# EAGLE library part MAX2829ETN+ (library My_Library)
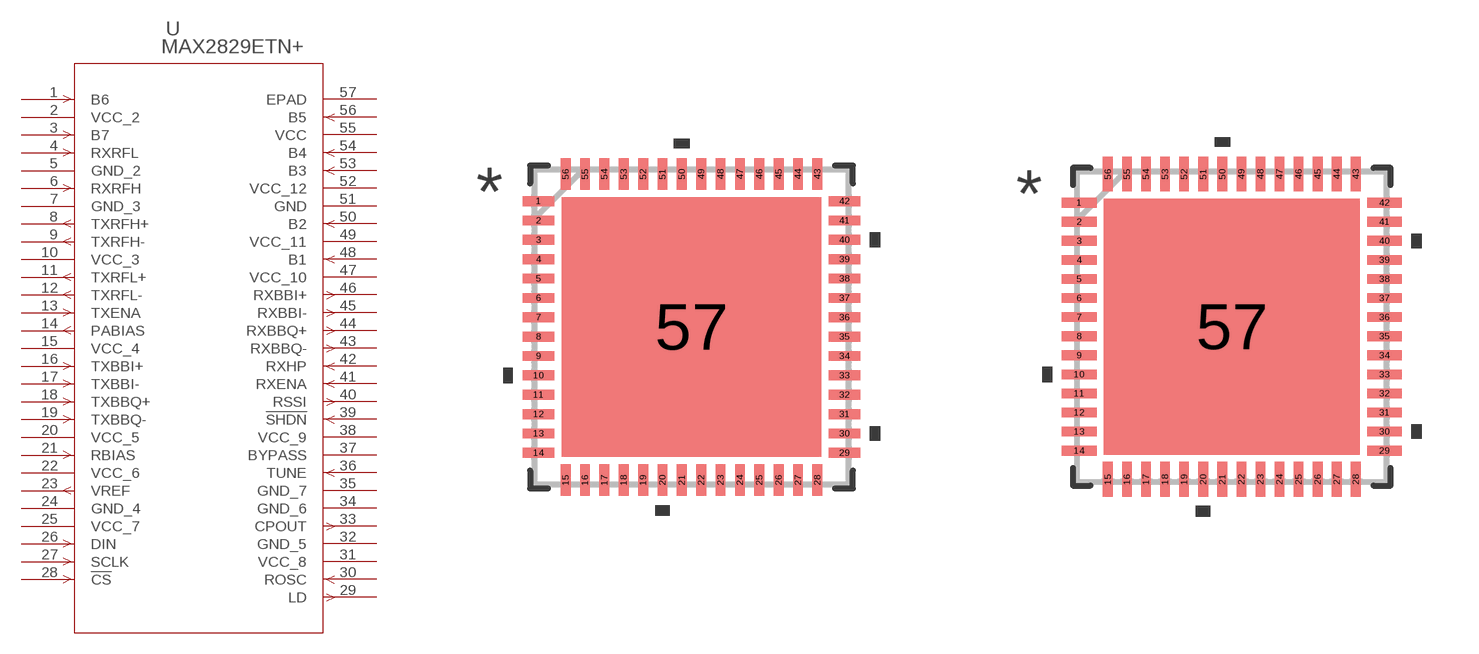
[diagram p23: symbol with the pads of 21-0135_T5688+2_MXM; footprints 21-0135_T5688+2_MXM, 21-0135_T5688+2_MXM-M]

Designator prefix U

## MAX2829ETN+ (COPYRIGHT: Copyright (C) 2024 Ultra Librarian. All rights reserved.; MANUFACTURER_PART_NUMBER: MAX2829ETN+; MFR_NAME: Analog Devices Inc)  [21-0135_T5688+2_MXM]
1  B6  in
2  VCC_2  pwr
3  B7  in
4  RXRFL  in
5  GND_2  pwr
6  RXRFH  in
7  GND_3  pwr
8  TXRFH+  out
9  TXRFH-  out
10  VCC_3  pwr
11  TXRFL+  out
12  TXRFL-  out
13  TXENA  in
14  PABIAS  out
15  VCC_4  pwr
16  TXBBI+  in
17  TXBBI-  in
18  TXBBQ+  in
19  TXBBQ-  in
20  VCC_5  pwr
21  RBIAS  in
22  VCC_6  pwr
23  VREF  out
24  GND_4  pwr
25  VCC_7  pwr
26  DIN  in
27  SCLK  in
28  !CS  in
29  LD  out
30  ROSC  in
31  VCC_8  pwr
32  GND_5  pwr
33  CPOUT  out
34  GND_6  pwr
35  GND_7  pwr
36  TUNE  in
37  BYPASS  pas
38  VCC_9  pwr
39  !SHDN  in
40  RSSI  out
41  RXENA  in
42  RXHP  in
43  RXBBQ-  out
44  RXBBQ+  out
45  RXBBI-  out
46  RXBBI+  out
47  VCC_10  pwr
48  B1  in
49  VCC_11  pwr
50  B2  in
51  GND  pwr
52  VCC_12  pwr
53  B3  in
54  B4  in
55  VCC  pwr
56  B5  in
57  EPAD  pas

## MAX2829ETN+21-0135_T5688+2_MXM-M (COPYRIGHT: Copyright (C) 2024 Ultra Librarian. All rights reserved.; MANUFACTURER_PART_NUMBER: MAX2829ETN+; MFR_NAME: Analog Devices Inc)  [21-0135_T5688+2_MXM-M]
Pads as for 21-0135_T5688+2_MXM

## MAX2829ETN+21-0135_T5688+2_MXM-L (COPYRIGHT: Copyright (C) 2024 Ultra Librarian. All rights reserved.; MANUFACTURER_PART_NUMBER: MAX2829ETN+; MFR_NAME: Analog Devices Inc)  [21-0135_T5688+2_MXM-L]
Pads as for 21-0135_T5688+2_MXM

## Footprint 21-0135_T5688+2_MXM (pad centres in mm)
smd 0.813 x 0.254: 1 -3.95,3.25; 2 -3.95,2.75; 3 -3.95,2.25; 4 -3.95,1.75; 5 -3.95,1.25; 6 -3.95,0.75; 7 -3.95,0.25; 8 -3.95,-0.25; 9 -3.95,-0.75; 10 -3.95,-1.25; 11 -3.95,-1.75; 12 -3.95,-2.25; 13 -3.95,-2.75; 14 -3.95,-3.25; 29 3.95,-3.25; 30 3.95,-2.75; 31 3.95,-2.25; 32 3.95,-1.75; 33 3.95,-1.25; 34 3.95,-0.75; 35 3.95,-0.25; 36 3.95,0.25; 37 3.95,0.75; 38 3.95,1.25; 39 3.95,1.75; 40 3.95,2.25; 41 3.95,2.75; 42 3.95,3.25
smd 0.254 x 0.813: 15 -3.25,-3.95; 16 -2.75,-3.95; 17 -2.25,-3.95; 18 -1.75,-3.95; 19 -1.25,-3.95; 20 -0.75,-3.95; 21 -0.25,-3.95; 22 0.25,-3.95; 23 0.75,-3.95; 24 1.25,-3.95; 25 1.75,-3.95; 26 2.25,-3.95; 27 2.75,-3.95; 28 3.25,-3.95; 43 3.25,3.95; 44 2.75,3.95; 45 2.25,3.95; 46 1.75,3.95; 47 1.25,3.95; 48 0.75,3.95; 49 0.25,3.95; 50 -0.25,3.95; 51 -0.75,3.95; 52 -1.25,3.95; 53 -1.75,3.95; 54 -2.25,3.95; 55 -2.75,3.95; 56 -3.25,3.95
smd 6.706 x 6.706: 57 0,0

## Footprint 21-0135_T5688+2_MXM-M (pad centres in mm)
smd 0.914 x 0.254: 1 -4,3.25; 2 -4,2.75; 3 -4,2.25; 4 -4,1.75; 5 -4,1.25; 6 -4,0.75; 7 -4,0.25; 8 -4,-0.25; 9 -4,-0.75; 10 -4,-1.25; 11 -4,-1.75; 12 -4,-2.25; 13 -4,-2.75; 14 -4,-3.25; 29 4,-3.25; 30 4,-2.75; 31 4,-2.25; 32 4,-1.75; 33 4,-1.25; 34 4,-0.75; 35 4,-0.25; 36 4,0.25; 37 4,0.75; 38 4,1.25; 39 4,1.75; 40 4,2.25; 41 4,2.75; 42 4,3.25
smd 0.254 x 0.914: 15 -3.25,-4; 16 -2.75,-4; 17 -2.25,-4; 18 -1.75,-4; 19 -1.25,-4; 20 -0.75,-4; 21 -0.25,-4; 22 0.25,-4; 23 0.75,-4; 24 1.25,-4; 25 1.75,-4; 26 2.25,-4; 27 2.75,-4; 28 3.25,-4; 43 3.25,4; 44 2.75,4; 45 2.25,4; 46 1.75,4; 47 1.25,4; 48 0.75,4; 49 0.25,4; 50 -0.25,4; 51 -0.75,4; 52 -1.25,4; 53 -1.75,4; 54 -2.25,4; 55 -2.75,4; 56 -3.25,4
smd 6.706 x 6.706: 57 0,0

## Footprint 21-0135_T5688+2_MXM-L (pad centres in mm)
smd 0.711 x 0.254: 1 -3.899,3.25; 2 -3.899,2.75; 3 -3.899,2.25; 4 -3.899,1.75; 5 -3.899,1.25; 6 -3.899,0.75; 7 -3.899,0.25; 8 -3.899,-0.25; 9 -3.899,-0.75; 10 -3.899,-1.25; 11 -3.899,-1.75; 12 -3.899,-2.25; 13 -3.899,-2.75; 14 -3.899,-3.25; 29 3.899,-3.25; 30 3.899,-2.75; 31 3.899,-2.25; 32 3.899,-1.75; 33 3.899,-1.25; 34 3.899,-0.75; 35 3.899,-0.25; 36 3.899,0.25; 37 3.899,0.75; 38 3.899,1.25; 39 3.899,1.75; 40 3.899,2.25; 41 3.899,2.75; 42 3.899,3.25
smd 0.254 x 0.711: 15 -3.25,-3.899; 16 -2.75,-3.899; 17 -2.25,-3.899; 18 -1.75,-3.899; 19 -1.25,-3.899; 20 -0.75,-3.899; 21 -0.25,-3.899; 22 0.25,-3.899; 23 0.75,-3.899; 24 1.25,-3.899; 25 1.75,-3.899; 26 2.25,-3.899; 27 2.75,-3.899; 28 3.25,-3.899; 43 3.25,3.899; 44 2.75,3.899; 45 2.25,3.899; 46 1.75,3.899; 47 1.25,3.899; 48 0.75,3.899; 49 0.25,3.899; 50 -0.25,3.899; 51 -0.75,3.899; 52 -1.25,3.899; 53 -1.75,3.899; 54 -2.25,3.899; 55 -2.75,3.899; 56 -3.25,3.899
smd 6.706 x 6.706: 57 0,0